# Altium footprint library CONN Vertical_D-SUB25.PcbLib: 1 footprints
Each footprint in its own frame and in the unit in brackets; x right, y up, seen from the top. Pads: shape width x height; smd on the part's side, far side on the other; paste and mask are expansions set on the pad; w line width, h text height; cw(c..) or ccw(c..) is an arc to the next point about the centre after c.
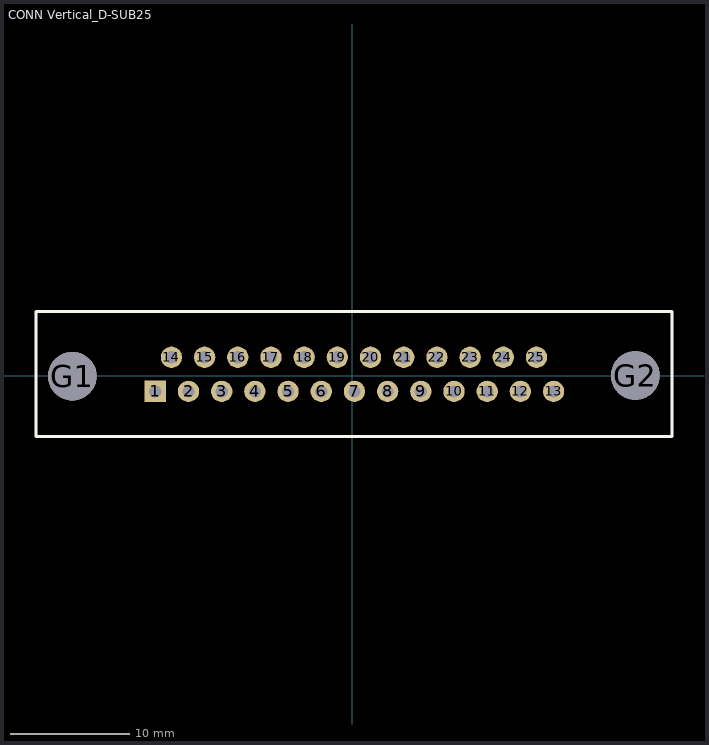
[diagram p0: the footprint, top view; thin cyan lines are the x and y axes]

## CONN Vertical_D-SUB25 [mil] "25 Pin DB Connector"
pads (27):
  rect 70x70 hole 40: 1(-647.35,-51)
  round 70 hole 40: 2(-538.3,-51) 3(-429.25,-51) 4(-320.2,-51) 5(-211.15,-51) 6(-102.1,-51) 7(6.95,-51) 8(116,-51) 9(225.05,-51) 10(334.1,-51) 11(443.15,-51) 12(552.2,-51) 13(661.25,-51) 14(-594.45,61) 15(-485.4,61) 16(-376.35,61) 17(-267.3,61) 18(-158.25,61) 19(-49.2,61) 20(59.85,61) 21(168.9,61) 22(277.95,61) 23(387,61) 24(496.05,61) 25(605.1,61)
  round 160 hole 160: G1(-920.05,-1) G2(929.95,1)
Top Overlay:
  lines w10: -1040,-199 -1040,210 -1039,211 1051,211 1051,-199 -1040,-199
3D body: height 480, standoff -124, extent -1040,-200 1050,210